# Altium footprint library RC1206FR-0775RL.PcbLib: 2 footprints
Each footprint in its own frame and in the unit in brackets; x right, y up, seen from the top. Pads: shape width x height; smd on the part's side, far side on the other; paste and mask are expansions set on the pad; w line width, h text height; cw(c..) or ccw(c..) is an arc to the next point about the centre after c.
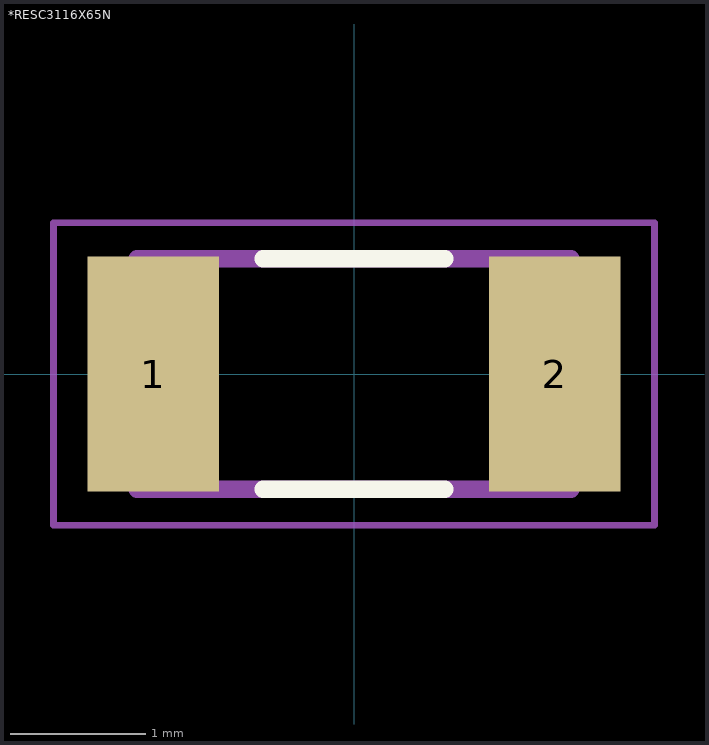
[diagram p0: the footprints below, top view; thin cyan lines are the x and y axes]

## *RESC3116X65N [mm]
pads (2):
  rect 0.97x1.73 smd: 1(-1.48,0) 2(1.48,0)
Top Overlay:
  lines w0.127: -0.67,-0.85 0.67,-0.85 ; -0.67,0.85 0.67,0.85
Mechanical 4:
  lines w0.127: -1.6,-0.85 -1.6,0.85 ; -1.6,-0.85 1.6,-0.85 ; -1.6,-0.85 -1.6,0.85 ; -1.6,-0.85 1.6,-0.85 ; -1.6,0.85 1.6,0.85 ; -1.6,0.85 1.6,0.85 ; 1.6,-0.85 1.6,0.85 ; 1.6,-0.85 1.6,0.85
Mechanical 16:
  lines w0.05: -2.215,-1.115 -2.215,1.115 2.215,1.115 2.215,-1.115 -2.215,-1.115

## PCBComponent_1 [mm]